# Altium integrated library Button_4Pin_Project.IntLib: 1 symbol
Pins are listed as number, name and electrical type; pins without a type are passive.

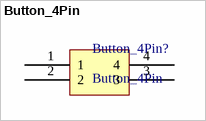
[diagram p0: symbol Button_4Pin]

## Button_4Pin
designator Button_4Pin?
footprint Button_4Pin
pins: 1, 2, 3, 4